# Altium schematic symbol library ERJ2RKF4990X.SchLib: 2 symbols
Pins are listed as number, name and electrical type; pins without a type are passive.

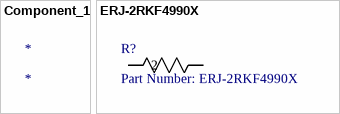
[diagram p0: symbols Component_1 to ERJ-2RKF4990X]

## Component_1
designator *

## ERJ-2RKF4990X
designator R?, comment Part Number: ERJ-2RKF4990X
No Description Available; Vendor: Panasonic; Built_By: EMA_UL_Team; Manufacturer_Part_Number: ERJ-2RKF4990X; Copyright: Copyright (C) 2018 Accelerated Designs. All rights reserved; RefDes: RefDes; Type: DEV; Value: Value
footprint RC0402N
pins: 1, 2